# Altium schematic symbol library Schlib.SchLib: 6 symbols
Pins are listed as number, name and electrical type; pins without a type are passive.

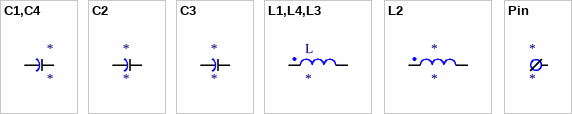
[diagram p0: symbols C1,C4 to Pin]

## C1,C4
designator *
footprint C1,C4(0805) (Chip Capacitor, 2-Leads, Body 2,00x1,25mm, IPC Medium Density)
pins: 1, 2

## C2
designator *
footprint C2(0603) (Chip Capacitor, 2-Leads, Body 1,60x0,81mm, IPC Medium Density)
pins: 1, 2

## C3
designator *
footprint C3(1206) (Chip Capacitor, 2-Leads, Body 3,20x1,60mm, IPC Medium Density)
pins: 1, 2

## L1,L4,L3
designator L
footprint L1,L4,L3
pins: 1, 2

## L2
designator *
footprint L2
pins: 1, 2

## Pin
designator *
footprint Pin
pins: 1 4